# Altium footprint library adafruit.PCBLIB: 643 footprints (part 27 of 41)
Each footprint in its own frame and in the unit in brackets; x right, y up, seen from the top. Pads: shape width x height; smd on the part's side, far side on the other; paste and mask are expansions set on the pad; w line width, h text height; cw(c..) or ccw(c..) is an arc to the next point about the centre after c.
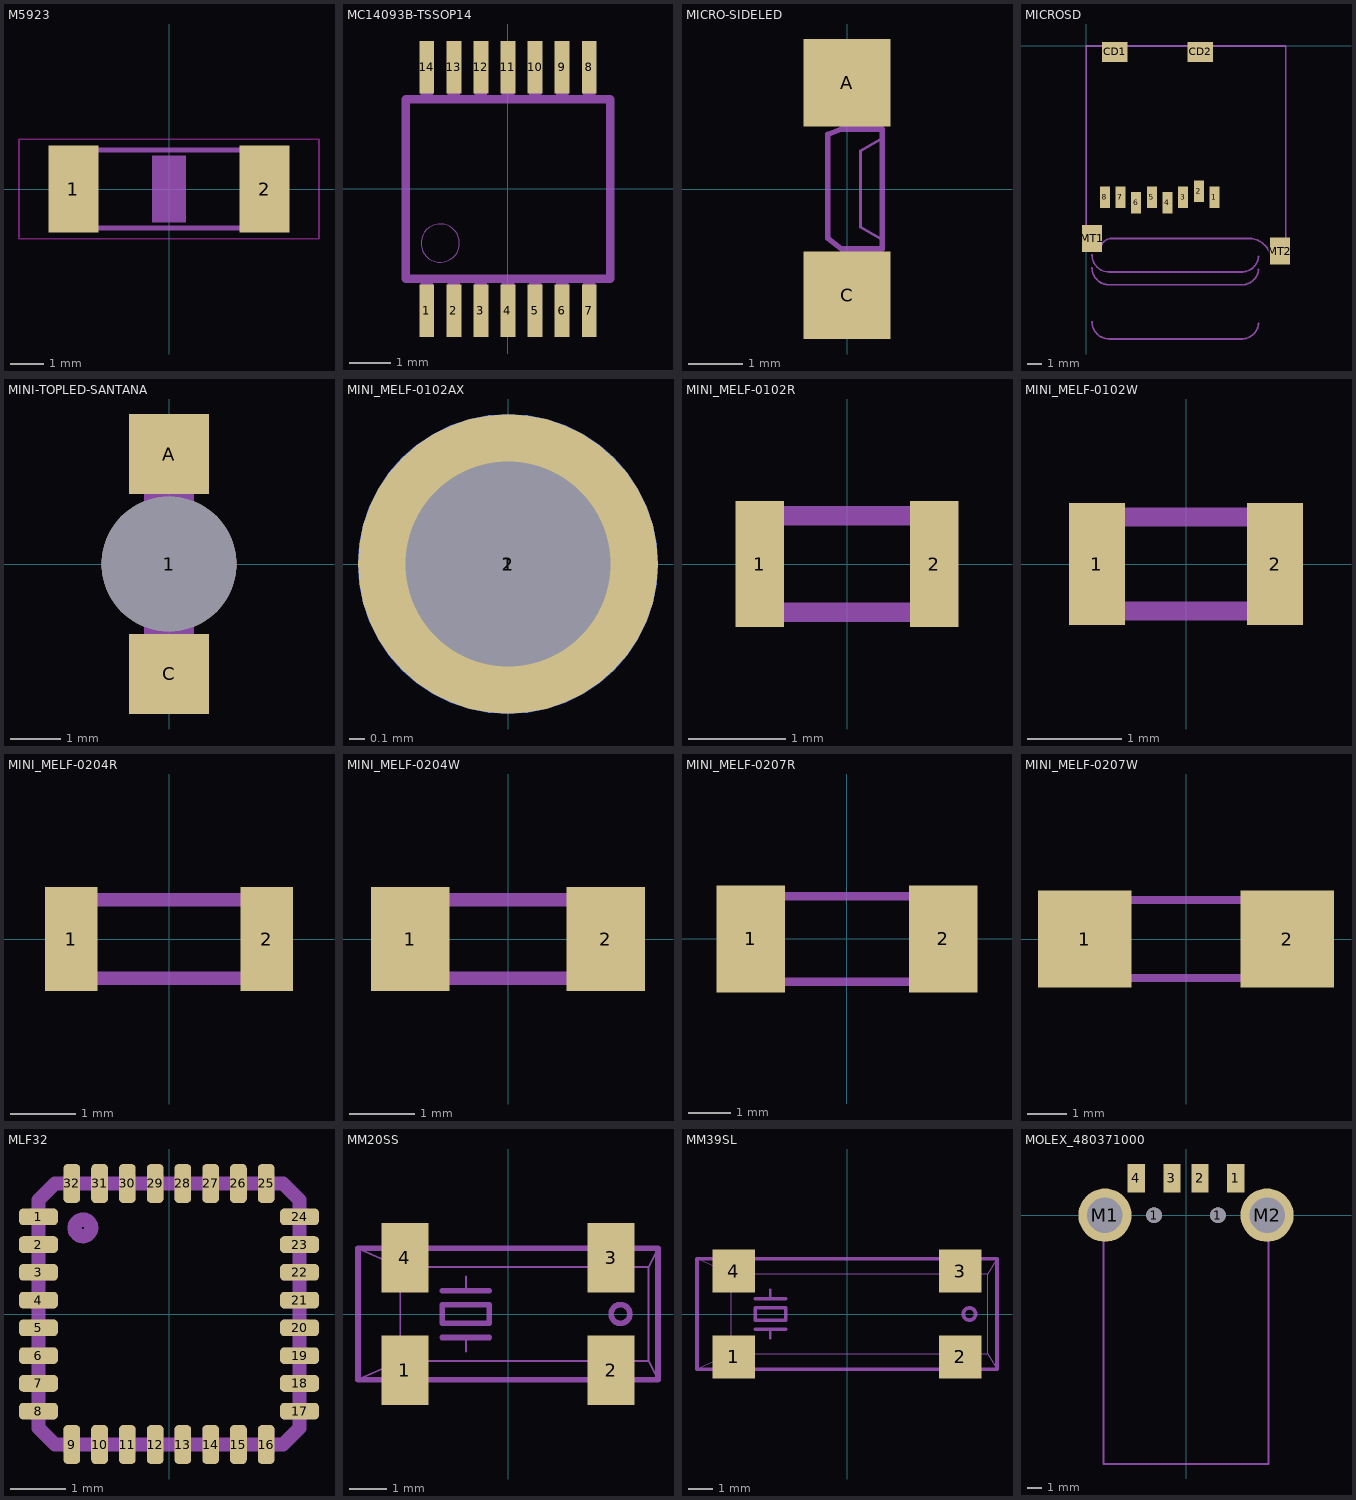
[diagram p26: the footprints below, top view; thin cyan lines are the x and y axes]

## M5923 [mil]
pads (2):
  rect 59.06x102.36 smd: 1(-112.2,0) 2(112.2,0)
Keep-Out Layer:
  lines w2: -176.1,-58.39 176.1,-58.39 176.1,58.39 -176.1,58.39 -176.1,-58.39
Mechanical 2:
  lines w6: -66,46 65,46 ; -65,-46 65,-46
Mechanical 8:
  rectangle: -19.69,-39.37 19.69,39.37
Mechanical 18:
  rectangle: -120,-49 -94,49
  rectangle: 94,-49 120,49
  lines w6: -96,46 95,46 ; -95,-46 95,-46

## MC14093B-TSSOP14 [mm]
pads (14):
  rect 0.36x1.26 smd mask-0.63: 1(-1.95,-2.925) 2(-1.3,-2.925) 3(-0.65,-2.925) 4(0,-2.925) 5(0.65,-2.925) 6(1.3,-2.925) 7(1.95,-2.925) 8(1.95,2.925) 9(1.3,2.925) 10(0.65,2.925) 11(0,2.925) 12(-0.65,2.925) 13(-1.3,2.925) 14(-1.95,2.925)
Top Solder:
  rectangle: -2.2,-3.6 -1.7,-2.2
  rectangle: -1.55,-3.6 -1.05,-2.2
  rectangle: -0.9,-3.6 -0.4,-2.2
  rectangle: -0.25,-3.6 0.25,-2.2
  rectangle: 0.4,-3.6 0.9,-2.2
  rectangle: 1.05,-3.6 1.55,-2.2
  rectangle: 1.7,-3.6 2.2,-2.2
  rectangle: -2.2,2.2 -1.7,3.6
  rectangle: -1.55,2.2 -1.05,3.6
  rectangle: -0.9,2.2 -0.4,3.6
  rectangle: -0.25,2.2 0.25,3.6
  rectangle: 0.4,2.2 0.9,3.6
  rectangle: 1.05,2.2 1.55,3.6
  rectangle: 1.7,2.2 2.2,3.6
Mechanical 2:
  circle w0: c-1.625,-1.3 r0.459
  lines w0.203: -2.45,-2.15 2.45,-2.15 2.45,2.15 -2.45,2.15 -2.45,-2.15
Mechanical 18:
  rectangle: -2.1,-3.3 -1.8,-2.225
  rectangle: -1.45,-3.3 -1.15,-2.225
  rectangle: -0.8,-3.3 -0.5,-2.225
  rectangle: -0.15,-3.3 0.15,-2.225
  rectangle: 0.5,-3.3 0.8,-2.225
  rectangle: 1.15,-3.3 1.45,-2.225
  rectangle: 1.8,-3.3 2.1,-2.225
  region: 2.1,3.3 1.8,3.3 1.8,2.225 2.1,2.225
  region: 1.45,3.3 1.15,3.3 1.15,2.225 1.45,2.225
  region: 0.8,3.3 0.5,3.3 0.5,2.225 0.8,2.225
  region: 0.15,3.3 -0.15,3.3 -0.15,2.225 0.15,2.225
  region: -0.5,3.3 -0.8,3.3 -0.8,2.225 -0.5,2.225
  region: -1.15,3.3 -1.45,3.3 -1.45,2.225 -1.15,2.225
  region: -1.8,3.3 -2.1,3.3 -2.1,2.225 -1.8,2.225

## MICRO-SIDELED [mil]
pads (2):
  rect 62.99x62.99 smd paste-31.5 mask-31.5: A(0,76.77) C(0,-76.77)
Top Paste:
  rectangle: -13.78,-68.9 13.78,-45.28
  rectangle: -13.78,45.28 13.78,68.9
Top Solder:
  rectangle: -15.75,43.31 15.75,70.87
  rectangle: -15.75,-70.87 15.75,-43.31
Mechanical 2:
  lines w2: 23.62,-35.43 9.84,-27.56 9.84,27.56 23.62,35.43
  lines w4: -13.78,-35.43 -13.78,39.37 ; 25.59,-43.31 25.59,43.31
Mechanical 18:
  rectangle: -4.92,44.29 4.92,68.9
  rectangle: -4.92,-68.9 4.92,-44.29
  lines w4: -13.78,-35.43 -3.94,-43.31 25.59,-43.31 ; -13.78,39.37 -3.94,43.31 25.59,43.31

## MICROSD [mm]
pads (12):
  rect 0.7x1.5 smd: 1(9,-10.64) 2(7.9,-10.24) 3(6.8,-10.64) 4(5.7,-11.04) 5(4.6,-10.64) 6(3.5,-11.04) 7(2.4,-10.64) 8(1.3,-10.64)
  rect 1.8x1.4 smd: CD1(2,-0.44) CD2(8,-0.44)
  rect 1.4x1.9 smd: MT1(0.4,-13.54) MT2(13.6,-14.44)
Mechanical 2:
  lines w0.127: 0.4,-19.4 ccw(c1.6,-19.4) 1.6,-20.6 10.8,-20.6 ccw(c10.9,-19.4) 12.1,-19.5 ; 0.4,-15.6 ccw(c1.6,-15.6) 1.6,-16.8 10.8,-16.8 ccw(c10.9,-15.6) 12.1,-15.7 ; 0.4,-14.7 ccw(c1.6,-14.7) 1.6,-15.9 10.8,-15.9 ccw(c10.9,-14.7) 12.1,-14.8 ; 0,-14.44 0,-0.04 14,-0.04 14,-15.14 13,-15.14 ccw(c11.4,-15.14) 11.4,-13.54 1.7,-13.54 ccw(c1.8,-14.34) 1,-14.44 0,-14.44

## MINI-TOPLED-SANTANA [mil]
pads (3):
  round 106.3 hole 106.3: 1(0,0)
  rect 62.99x62.99 smd paste-31.5 mask-31.5: A(0,86.61) C(0,-86.61)
Top Paste:
  rectangle: -19.69,-80.71 19.69,-61.02
  rectangle: -19.69,61.02 19.69,80.71
Top Solder:
  rectangle: -21.65,59.06 21.65,82.68
  rectangle: -21.65,-82.68 21.65,-59.06
Mechanical 2:
  rectangle: -7.87,-15.75 5.91,-1.97
  rectangle: -19.69,39.37 19.69,55.12
  rectangle: -19.69,-55.12 19.69,-41.34
  lines w4: 13.78,-39.37 27.56,-39.37 27.56,-25.59 ; 13.78,-39.37 -17.72,-39.37 -27.56,-39.37 -27.56,-29.53 -27.56,39.37 27.56,39.37 27.56,-25.59 ; 13.78,-39.37 27.56,-25.59 ; -17.72,-27.56 17.72,-27.56 17.72,27.56 -17.72,27.56 -17.72,-27.56
Mechanical 18:
  rectangle: -19.69,-82.68 19.69,-55.12
  rectangle: -19.69,55.12 19.69,80.71

## MINI_MELF-0102AX [mil]
pads (3):
  rrect100% 74.8x74.8 smd: 1(0,0)
  round 51.18 hole 51.18: 1(0,0)
  rrect100% 74.8x74.8 smd far side: 2(0,0)
Mechanical 18:
  circle w0: c0,0 r23.62
Mechanical 19:
  circle w0: c0,0 r23.62

## MINI_MELF-0102R [mil]
pads (2):
  rect 19.69x51.18 smd: 1(-35.43,0) 2(35.43,0)
Mechanical 18:
  lines w8: -39.37,-19.69 39.37,-19.69 39.37,19.69 -39.37,19.69 -39.37,-19.69

## MINI_MELF-0102W [mil]
pads (2):
  rect 23.62x51.18 smd: 1(-37.4,0) 2(37.4,0)
Mechanical 18:
  lines w8: -39.37,-19.69 39.37,-19.69 39.37,19.69 -39.37,19.69 -39.37,-19.69

## MINI_MELF-0204R [mil]
pads (2):
  rect 31.5x62.99 smd: 1(-59.06,0) 2(59.06,0)
Mechanical 18:
  lines w8: -66.93,-23.62 66.93,-23.62 66.93,23.62 -66.93,23.62 -66.93,-23.62

## MINI_MELF-0204W [mil]
pads (2):
  rect 47.24x62.99 smd: 1(-59.06,0) 2(59.06,0)
Mechanical 18:
  lines w8: -66.93,-23.62 66.93,-23.62 66.93,23.62 -66.93,23.62 -66.93,-23.62

## MINI_MELF-0207R [mil]
pads (2):
  rect 62.99x98.43 smd: 1(-88.58,0) 2(88.58,0)
Mechanical 18:
  lines w8: -110.24,-39.37 110.24,-39.37 110.24,39.37 -110.24,39.37 -110.24,-39.37

## MINI_MELF-0207W [mil]
pads (2):
  rect 94.49x98.43 smd: 1(-102.36,0) 2(102.36,0)
Mechanical 18:
  lines w8: -110.24,-39.37 110.24,-39.37 110.24,39.37 -110.24,39.37 -110.24,-39.37

## MLF32 [mm]
pads (32):
  rrect50% 0.7x0.3 smd: 1(-2.35,1.75) 2(-2.35,1.25) 3(-2.35,0.75) 4(-2.35,0.25) 5(-2.35,-0.25) 6(-2.35,-0.75) 7(-2.35,-1.25) 8(-2.35,-1.75) 17(2.35,-1.75) 18(2.35,-1.25) 19(2.35,-0.75) 20(2.35,-0.25) 21(2.35,0.25) 22(2.35,0.75) 23(2.35,1.25) 24(2.35,1.75)
  rrect50% 0.3x0.7 smd: 9(-1.75,-2.35) 10(-1.25,-2.35) 11(-0.75,-2.35) 12(-0.25,-2.35) 13(0.25,-2.35) 14(0.75,-2.35) 15(1.25,-2.35) 16(1.75,-2.35) 25(1.75,2.35) 26(1.25,2.35) 27(0.75,2.35) 28(0.25,2.35) 29(-0.25,2.35) 30(-0.75,2.35) 31(-1.25,2.35) 32(-1.75,2.35)
Mechanical 2:
  circle w0.254: c-1.55,1.55 r0.15
  lines w0.254: -2.35,-2.05 -2.05,-2.35 ; -2.35,2.05 -2.05,2.35 ; 2.05,-2.35 2.35,-2.05 ; 2.05,2.35 2.35,2.05
Mechanical 18:
  rectangle: -2.5,1.6 -2.05,1.9
  rectangle: -2.5,1.1 -2.05,1.4
  rectangle: -2.5,0.6 -2.05,0.9
  rectangle: -2.5,0.1 -2.05,0.4
  rectangle: -2.5,-0.4 -2.05,-0.1
  rectangle: -2.5,-0.9 -2.05,-0.6
  rectangle: -2.5,-1.4 -2.05,-1.1
  rectangle: -2.5,-1.9 -2.05,-1.6
  rectangle: -1.9,-2.5 -1.6,-2.05
  rectangle: -1.4,-2.5 -1.1,-2.05
  rectangle: -0.9,-2.5 -0.6,-2.05
  rectangle: -0.4,-2.5 -0.1,-2.05
  rectangle: 0.1,-2.5 0.4,-2.05
  rectangle: 0.6,-2.5 0.9,-2.05
  rectangle: 1.1,-2.5 1.4,-2.05
  rectangle: 1.6,-2.5 1.9,-2.05
  rectangle: 2.05,-1.9 2.5,-1.6
  rectangle: 2.05,-1.4 2.5,-1.1
  rectangle: 2.05,-0.9 2.5,-0.6
  rectangle: 2.05,-0.4 2.5,-0.1
  rectangle: 2.05,0.1 2.5,0.4
  rectangle: 2.05,0.6 2.5,0.9
  rectangle: 2.05,1.1 2.5,1.4
  rectangle: 2.05,1.6 2.5,1.9
  rectangle: 1.6,2.05 1.9,2.5
  rectangle: 1.1,2.05 1.4,2.5
  rectangle: 0.6,2.05 0.9,2.5
  rectangle: 0.1,2.05 0.4,2.5
  rectangle: -0.4,2.05 -0.1,2.5
  rectangle: -0.9,2.05 -0.6,2.5
  rectangle: -1.4,2.05 -1.1,2.5
  rectangle: -1.9,2.05 -1.6,2.5
  lines w0.254: -2.35,-2.05 -2.35,2.05 ; -2.05,-2.35 2.05,-2.35 ; -2.05,2.35 2.05,2.35 ; 2.35,-2.05 2.35,2.05

## MM20SS [mil]
pads (4):
  rect 50x74 smd: 1(-110,-60) 2(110,-60) 3(110,60) 4(-110,60)
Mechanical 2:
  circle w6: c120,0 r10
  lines w2: -160,-70 -140,-61.1 ; -160,70 -140,61.1 ; -115,-15 -115,15 ; -80,-50 80,-50 ; -80,50 80,50 ; -45,-40 -45,-25 ; -45,25 -45,40 ; 140,-50 150,-50 ; 140,50 150,50 ; 160,-70 150,-50 ; 160,70 150,50 ; 150,-50 150,50
  lines w6: -140,-70 -160,-70 -160,70 -140,70 ; -80,-70 80,-70 ; -80,70 80,70 ; -70,-25 -45,-25 -20,-25 ; -70,25 -45,25 -20,25 ; 140,-70 160,-70 160,70 140,70 ; -70,-10 -20,-10 -20,10 -70,10 -70,-10
Mechanical 18:
  lines w2: -140,-61.1 -115,-50 ; -140,61.1 -115,50 ; -115,-15 -115,-50 ; -115,15 -115,50 ; -80,-50 -115,-50 ; -80,50 -115,50 ; 80,-50 140,-50 ; 80,50 140,50
  lines w6: -140,-70 -80,-70 ; -140,70 -80,70 ; -120,-70 -120,-75 -100,-75 -100,-70 ; -120,70 -120,75 -100,75 -100,70 ; 80,-70 140,-70 ; 80,70 140,70 ; 100,-70 100,-75 120,-75 120,-70 ; 100,70 100,75 120,75 120,70

## MM39SL [mil]
pads (4):
  rect 70x70 smd: 1(-185,-70) 2(185,-70) 3(185,70) 4(-185,70)
Mechanical 2:
  circle w6: c200,0 r10
  lines w2: -245,-90 -225,-80.91 ; -245,90 -225,80.91 ; -190,-30 -190,30 ; -145,-65 145,-65 ; -145,65 145,65 ; 225,-65 230,-65 ; 225,65 230,65 ; 245,-90 230,-65 ; 245,90 230,65 ; 230,-65 230,65
  lines w4: -125,-40 -125,-25 ; -125,25 -125,40
  lines w6: -225,-90 -245,-90 -245,90 -225,90 ; -150,-25 -125,-25 -100,-25 ; -150,25 -125,25 -100,25 ; -145,-90 145,-90 ; -145,90 145,90 ; 225,-90 245,-90 245,90 225,90 ; -150,-10 -100,-10 -100,10 -150,10 -150,-10
Mechanical 18:
  lines w2: -225,-80.91 -190,-65 ; -225,80.91 -190,65 ; -190,-30 -190,-65 ; -190,30 -190,65 ; -145,-65 -190,-65 ; -145,65 -190,65 ; 145,-65 225,-65 ; 145,65 225,65
  lines w6: -225,-90 -145,-90 ; -225,90 -145,90 ; 145,-90 225,-90 ; 145,90 225,90

## MOLEX_480371000 [mm]
pads (8):
  round 1.1 hole 1.1: 1(-2.25,0) 1(2.25,0)
  rect 1.2x2 smd: 1(3.5,2.6) 2(1,2.6) 3(-1,2.6) 4(-3.5,2.6)
  round 3.75 hole 2.5: M1(-5.7,0) M2(5.7,0)
Mechanical 2:
  lines w0.127: -5.8,0 -5.8,-17.5 5.8,-17.5 5.8,0